# Altium footprint library AVT5805_DF.PcbLib: 8 footprints
Each footprint in its own frame and in the unit in brackets; x right, y up, seen from the top. Pads: shape width x height; smd on the part's side, far side on the other; paste and mask are expansions set on the pad; w line width, h text height; cw(c..) or ccw(c..) is an arc to the next point about the centre after c.
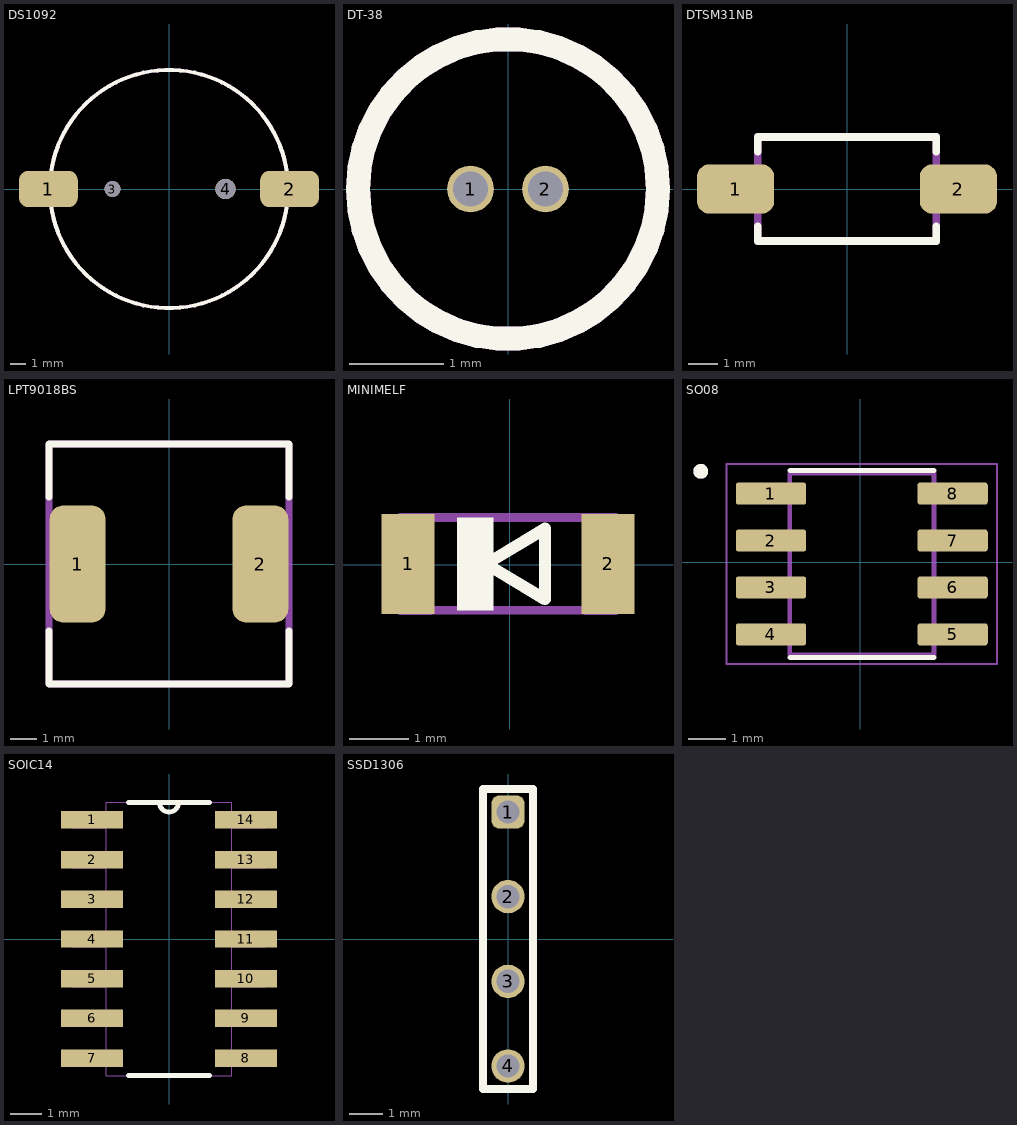
[diagram p0: the footprints below, top view; thin cyan lines are the x and y axes]

## DS1092 [mm]
pads (4):
  rrect50% 3.9x2.4 all layers, no hole: 1(-8,0) 2(8,0)
  round 1.05 hole 1.05: 3(-3.75,0)
  round 1.35 hole 1.35: 4(3.75,0)
Top Overlay:
  circle w0.254: c0,0 r7.9
Mechanical 13:
  circle w0.254: c0,0 r7.9

## DT-38 [mm]
pads (2):
  round 0.5 hole 0.376: 1(-0.4,0) 2(0.4,0)
Top Overlay:
  circle w0.254: c0,0 r1.6
Mechanical 13:
  circle w0.254: c0,0 r1.6

## DTSM31NB [mm]
pads (2):
  rrect50% 2.598x1.663 smd: 1(-3.75,0) 2(3.75,0)
Top Overlay:
  lines w0.254: -3,-1.25 -3,-1.75 3,-1.75 3,-1.25 ; -3,1.25 -3,1.75 3,1.75 3,1.25
Mechanical 13:
  lines w0.254: -3,-1.75 3,-1.75 3,1.75 -3,1.75 -3,-1.75

## LPT9018BS [mm]
pads (2):
  rrect50% 2.1x4.4 smd: 1(-3.425,0) 2(3.425,0)
Top Overlay:
  lines w0.254: -4.5,-2.5 -4.5,-4.5 4.5,-4.5 4.5,-2.5 ; -4.5,2.5 -4.5,4.5 4.5,4.5 4.5,2.5
Mechanical 13:
  lines w0.254: -4.5,-4.5 -4.5,4.5 4.5,4.5 4.5,-4.5 -4.5,-4.5

## MINIMELF [mm]
pads (2):
  rect 0.9x1.7 smd: 1(-1.732,0.012) 2(1.668,0.012)
Top Overlay:
  region: -0.286,-0.776 -0.897,-0.776 -0.897,0.799 -0.286,0.799
  lines w0.203: -0.405,0.012 0.595,0.612 0.595,-0.588 -0.405,0.012
Mechanical 13:
  region: -1.327,-0.853 -1.888,-0.853 -1.888,0.876 -1.327,0.876
  region: 1.822,-0.854 1.267,-0.854 1.267,0.876 1.822,0.876
  lines w0.152: -1.353,-0.775 1.289,-0.775 ; -1.353,0.799 1.289,0.799

## SO08 [mm]
pads (8):
  rrect25% 1.9x0.6 smd: 1(-2.416,1.854) 2(-2.416,0.584) 3(-2.416,-0.686) 4(-2.416,-1.956) 5(2.494,-1.956) 6(2.494,-0.686) 7(2.494,0.584) 8(2.494,1.854)
Top Overlay:
  circle w0.2: c-4.316,2.454 r0.1
  lines w0.127: -1.911,-2.576 1.989,-2.576 ; -1.911,2.474 1.989,2.474
Mechanical 13:
  circle w0.2: c-4.316,2.454 r0.1
  lines w0.127: -1.911,-2.501 -1.911,2.399 1.989,2.399 1.989,-2.501 -1.911,-2.501
Mechanical 15:
  lines w0.05: -3.616,-2.751 -3.616,2.649 3.694,2.649 3.694,-2.751 -3.616,-2.751

## SOIC14 [mil]
pads (14):
  rect 78x22 smd: 1(-97,150) 2(-97,100) 3(-97,50) 4(-97,0) 5(-97,-50) 6(-97,-100) 7(-97,-150) 8(97,-150) 9(97,-100) 10(97,-50) 11(97,0) 12(97,50) 13(97,100) 14(97,150)
Top Overlay:
  lines w6: -51,-172 51,-172 ; -51,172 -12,172 ; 51,172 12,172 ; -12,172 ccw(c0,172) 12,172 ; -12,172 12,172
Mechanical 13:
  lines w0: -12,172 ccw(c0,172) 12,172 ; -12,172 12,172 ; -12,172 -79,172 -79,-172 79,-172 79,172 12,172 ; -122,-160 -122,-140 -79,-140 -79,-160 -122,-160 ; -122,-110 -122,-90 -79,-90 -79,-110 -122,-110 ; -122,-60 -122,-40 -79,-40 -79,-60 -122,-60 ; -122,-10 -122,10 -79,10 -79,-10 -122,-10 ; -122,40 -122,60 -79,60 -79,40 -122,40 ; -122,90 -122,110 -79,110 -79,90 -122,90 ; -122,140 -122,160 -79,160 -79,140 -122,140 ; 79,-160 79,-140 122,-140 122,-160 79,-160 ; 79,-110 79,-90 122,-90 122,-110 79,-110 ; 79,-60 79,-40 122,-40 122,-60 79,-60 ; 79,-10 79,10 122,10 122,-10 79,-10 ; 79,40 79,60 122,60 122,40 79,40 ; 79,90 79,110 122,110 122,90 79,90 ; 79,140 79,160 122,160 122,140 79,140

## SSD1306 [mm]
pads (4):
  rrect50% 1x1 hole 0.7: 1(0,3.81)
  round 1 hole 0.7: 2(0,1.27) 3(0,-1.27) 4(0,-3.81)
Top Overlay:
  lines w0.254: -0.75,-4.5 0.75,-4.5 0.75,4.5 -0.75,4.5 -0.75,-4.5
Mechanical 13:
  lines w0.254: -0.75,-4.5 -0.75,4.5 0.75,4.5 0.75,-4.5 -0.75,-4.5